# EAGLE library part HEADER_2X3 (library harrison)
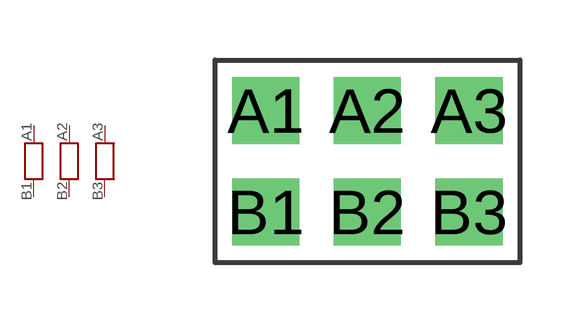
[diagram p90: symbol with the pads of HEADER_2X3; footprint HEADER_2X3]

Designator prefix S

## HEADER_2X3  [HEADER_2X3]
A1  A1  pas
A2  A2  pas
A3  A3  pas
B1  B1  pas
B2  B2  pas
B3  B3  pas

## Footprint HEADER_2X3 (pad centres in mm)
drill 0.813 pad 1.676 square: A1 -2.54,1.27; A2 0,1.27; A3 2.54,1.27; B1 -2.54,-1.27; B2 0,-1.27; B3 2.54,-1.27